# EAGLE library part USB2513B-AEZC (library marius)
IC, 3-PORT USB 2.0 HUB CONTRL, 36VQFN
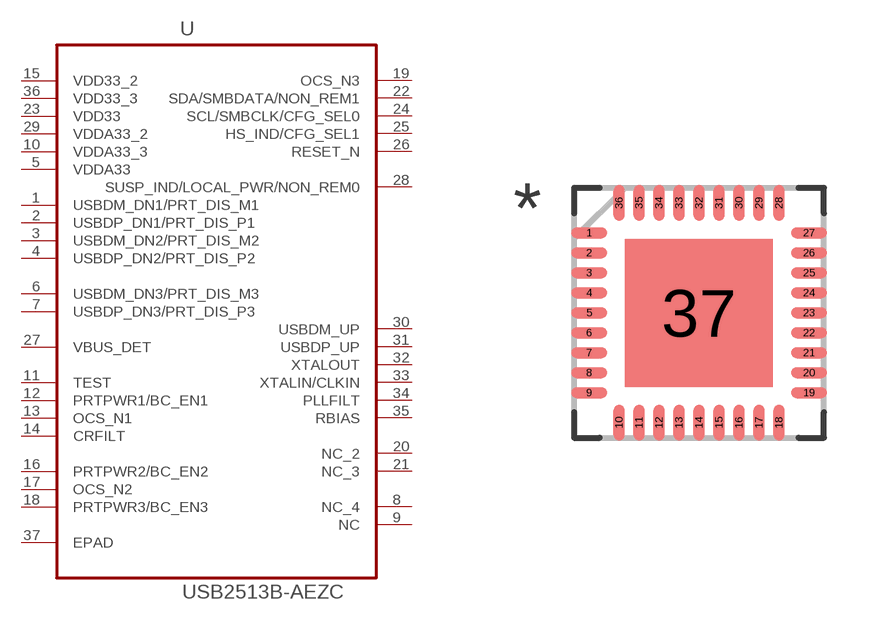
[diagram p32: symbol with the pads of QFN50P600X600X100-37N; footprint QFN50P600X600X100-37N]

Designator prefix U

## USB2513B-AEZC (MPN: USB2513B-AEZC; PACKAGE: 36VQFN; PROD: Microchip)  [QFN50P600X600X100-37N]
1  USBDM_DN1/PRT_DIS_M1  pas
2  USBDP_DN1/PRT_DIS_P1  pas
3  USBDM_DN2/PRT_DIS_M2  pas
4  USBDP_DN2/PRT_DIS_P2  pas
5  VDDA33  pwr
6  USBDM_DN3/PRT_DIS_M3  pas
7  USBDP_DN3/PRT_DIS_P3  pas
8  NC_4  nc
9  NC  nc
10  VDDA33_3  pwr
11  TEST  pas
12  PRTPWR1/BC_EN1  pas
13  OCS_N1  pas
14  CRFILT  pas
15  VDD33_2  pwr
16  PRTPWR2/BC_EN2  pas
17  OCS_N2  pas
18  PRTPWR3/BC_EN3  pas
19  OCS_N3  pas
20  NC_2  nc
21  NC_3  nc
22  SDA/SMBDATA/NON_REM1  pas
23  VDD33  pwr
24  SCL/SMBCLK/CFG_SEL0  pas
25  HS_IND/CFG_SEL1  pas
26  RESET_N  pas
27  VBUS_DET  pwr
28  SUSP_IND/LOCAL_PWR/NON_REM0  pas
29  VDDA33_2  pwr
30  USBDM_UP  pas
31  USBDP_UP  pas
32  XTALOUT  pas
33  XTALIN/CLKIN  pas
34  PLLFILT  pas
35  RBIAS  pas
36  VDD33_3  pwr
37  EPAD  pas

## Footprint QFN50P600X600X100-37N (pad centres in mm)
smd 0.9 x 0.28: 1 -2.75,2; 2 -2.75,1.5; 3 -2.75,1; 4 -2.75,0.5; 5 -2.75,0; 6 -2.75,-0.5; 7 -2.75,-1; 8 -2.75,-1.5; 9 -2.75,-2; 19 2.75,-2; 20 2.75,-1.5; 21 2.75,-1; 22 2.75,-0.5; 23 2.75,0; 24 2.75,0.5; 25 2.75,1; 26 2.75,1.5; 27 2.75,2
smd 0.28 x 0.9: 10 -2,-2.75; 11 -1.5,-2.75; 12 -1,-2.75; 13 -0.5,-2.75; 14 0,-2.75; 15 0.5,-2.75; 16 1,-2.75; 17 1.5,-2.75; 18 2,-2.75; 28 2,2.75; 29 1.5,2.75; 30 1,2.75; 31 0.5,2.75; 32 0,2.75; 33 -0.5,2.75; 34 -1,2.75; 35 -1.5,2.75; 36 -2,2.75
smd 3.7 x 3.7: 37 0,0